# Altium footprint library SMA.PcbLib: 1 footprints
Each footprint in its own frame and in the unit in brackets; x right, y up, seen from the top. Pads: shape width x height; smd on the part's side, far side on the other; paste and mask are expansions set on the pad; w line width, h text height; cw(c..) or ccw(c..) is an arc to the next point about the centre after c.
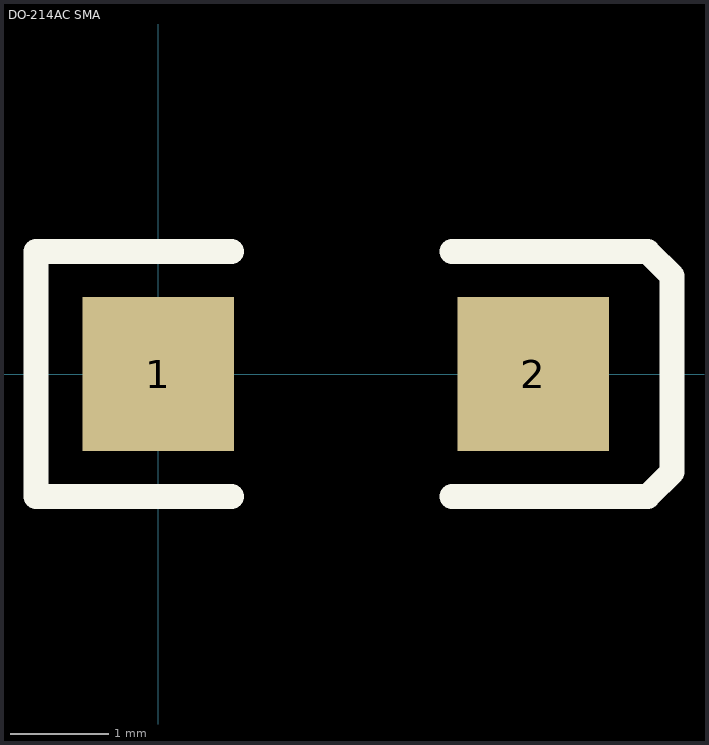
[diagram p0: the footprint, top view; thin cyan lines are the x and y axes]

## DO-214AC SMA [mm]
height 2.21
pads (2):
  rect 1.55x1.57 smd: 1(0,0) 2(3.83,0)
Top Overlay:
  lines w0.254: 0.75,-1.25 -1.25,-1.25 -1.25,1.25 0.75,1.25 ; 3,-1.25 5,-1.25 5.25,-1 5.25,1 ; 3,1.25 5,1.25 ; 5,1.25 5.25,1 ; 5,1.25 5.25,1